# Altium schematic symbol library SCH - TEST POINT - TAP OFF.SCHLIB: 1 symbol
Pins are listed as number, name and electrical type; pins without a type are passive.

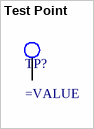
[diagram p0: symbol Test Point]

## Test Point
designator TP?  (no BOM)
pins: 1